# EAGLE library part RELAY-HFD2/005-S-L2 (library template)
2 coils latching
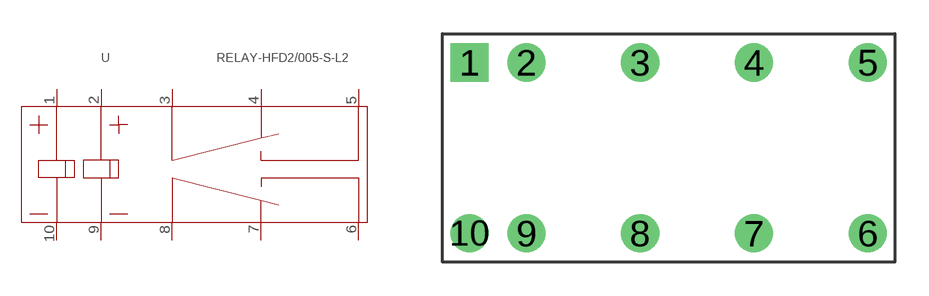
[diagram p24: symbol with the pads of 10P-20.2X10.2X10.6; footprint 10P-20.2X10.2X10.6]

Designator prefix U

## RELAY-HFD2/005-S-L2'HFD2/005-S-L2'  [10P-20.2X10.2X10.6]
1  1
2  2
3  4
4  6
5  8
6  9
7  11
8  13
9  15
10  16

## Footprint 10P-20.2X10.2X10.6 (pad centres in mm)
drill 1 pad 1.7 square: 1 -8.89,3.81
drill 1 pad 1.7: 2 -6.35,3.81; 3 -1.27,3.81; 4 3.81,3.81; 5 8.89,3.81; 6 8.89,-3.81; 7 3.81,-3.81; 8 -1.27,-3.81; 9 -6.35,-3.81; 10 -8.89,-3.81